# Altium schematic symbol library Schlib_UMW.SchLib: 3 symbols
Pins are listed as number, name and electrical type; pins without a type are passive.

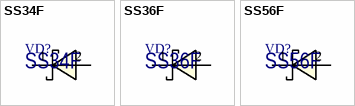
[diagram p0: symbols SS34F to SS56F]

## SS34F
designator VD?
3A Schottky barrier rectifier; Manufacturer: UMW; Package: SMAF; Part Number: SS34F
footprint SMA-FL (SMA-FL Case 403AA Style 6)
pins: 1, 2

## SS36F
designator VD?
3A Schottky barrier rectifier; Manufacturer: UMW; Package: SMAF; Part Number: SS36F
footprint SMA-FL (SMA-FL Case 403AA Style 6)
pins: 1, 2

## SS56F
designator VD?
5A Schottky barrier rectifier; Manufacturer: UMW; Package: SMAF; Part Number: SS56F
footprint SMA-FL (SMA-FL Case 403AA Style 6)
pins: 1, 2